# EAGLE library part MMA7455L (library 24x16_RGB_ATXMega_Wifi_BBuck)
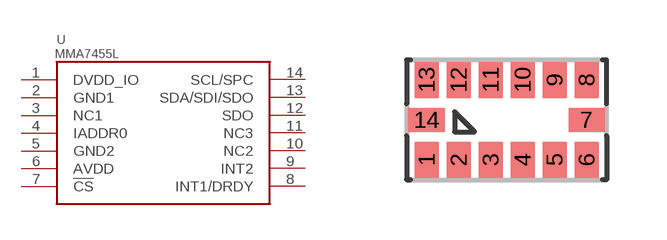
[diagram p2: symbol with the pads of LGA-14; footprint LGA-14]

Designator prefix -

## MMA7455L  [LGA-14]
1  DVDD_IO  pwr
2  GND1  pwr
3  NC1  nc
4  IADDR0  in
5  GND2  pwr
6  AVDD  pwr
7  !CS  in
8  INT1/DRDY  out
9  INT2  out
10  NC2  nc
11  NC3  nc
12  SDO  out
13  SDA/SDI/SDO
14  SCL/SPC  in

## Footprint LGA-14 (pad centres in mm)
smd 0.6 x 0.9: 1 -2,-1; 2 -1.2,-1; 3 -0.4,-1; 4 0.4,-1; 5 1.2,-1; 6 2,-1; 8 2,1; 9 1.2,1; 10 0.4,1; 11 -0.4,1; 12 -1.2,1; 13 -2,1
smd 0.9 x 0.6: 7 2,0; 14 -2,0